# EAGLE library part CIRC8 (library Sam_transistors_ICS)
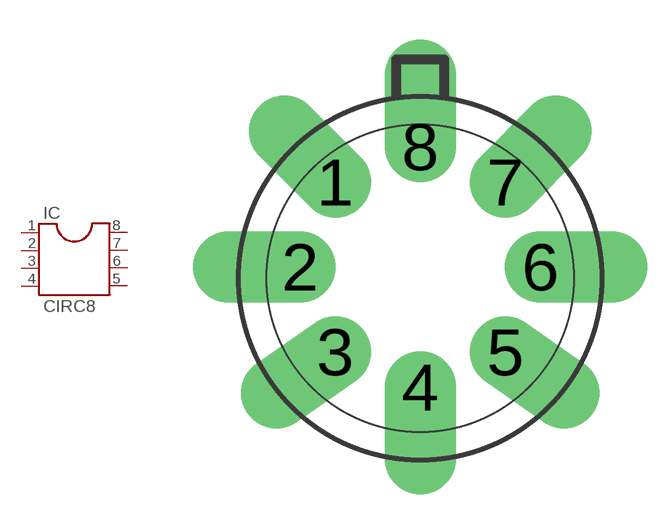
[diagram p1: symbol with the pads of CIRC8; footprint CIRC8]

Designator prefix IC

## CIRC8  [CIRC8]
1  1  pas
2  2  pas
3  3  pas
4  4  pas
5  5  pas
6  6  pas
7  7  pas
8  8  pas

## Footprint CIRC8 (pad centres in mm)
TO 5
drill 1 pad 1.8 offset: 1 -2.138,2.422; 2 -3.024,0.284; 3 -2.138,-1.854; 4 0,-2.74; 5 2.138,-1.854; 6 3.024,0.284; 7 2.138,2.422; 8 0,3.308